# Altium footprint library leadic_footp.PcbLib: 46 footprints (part 1 of 3)
Each footprint in its own frame and in the unit in brackets; x right, y up, seen from the top. Pads: shape width x height; smd on the part's side, far side on the other; paste and mask are expansions set on the pad; w line width, h text height; cw(c..) or ccw(c..) is an arc to the next point about the centre after c.
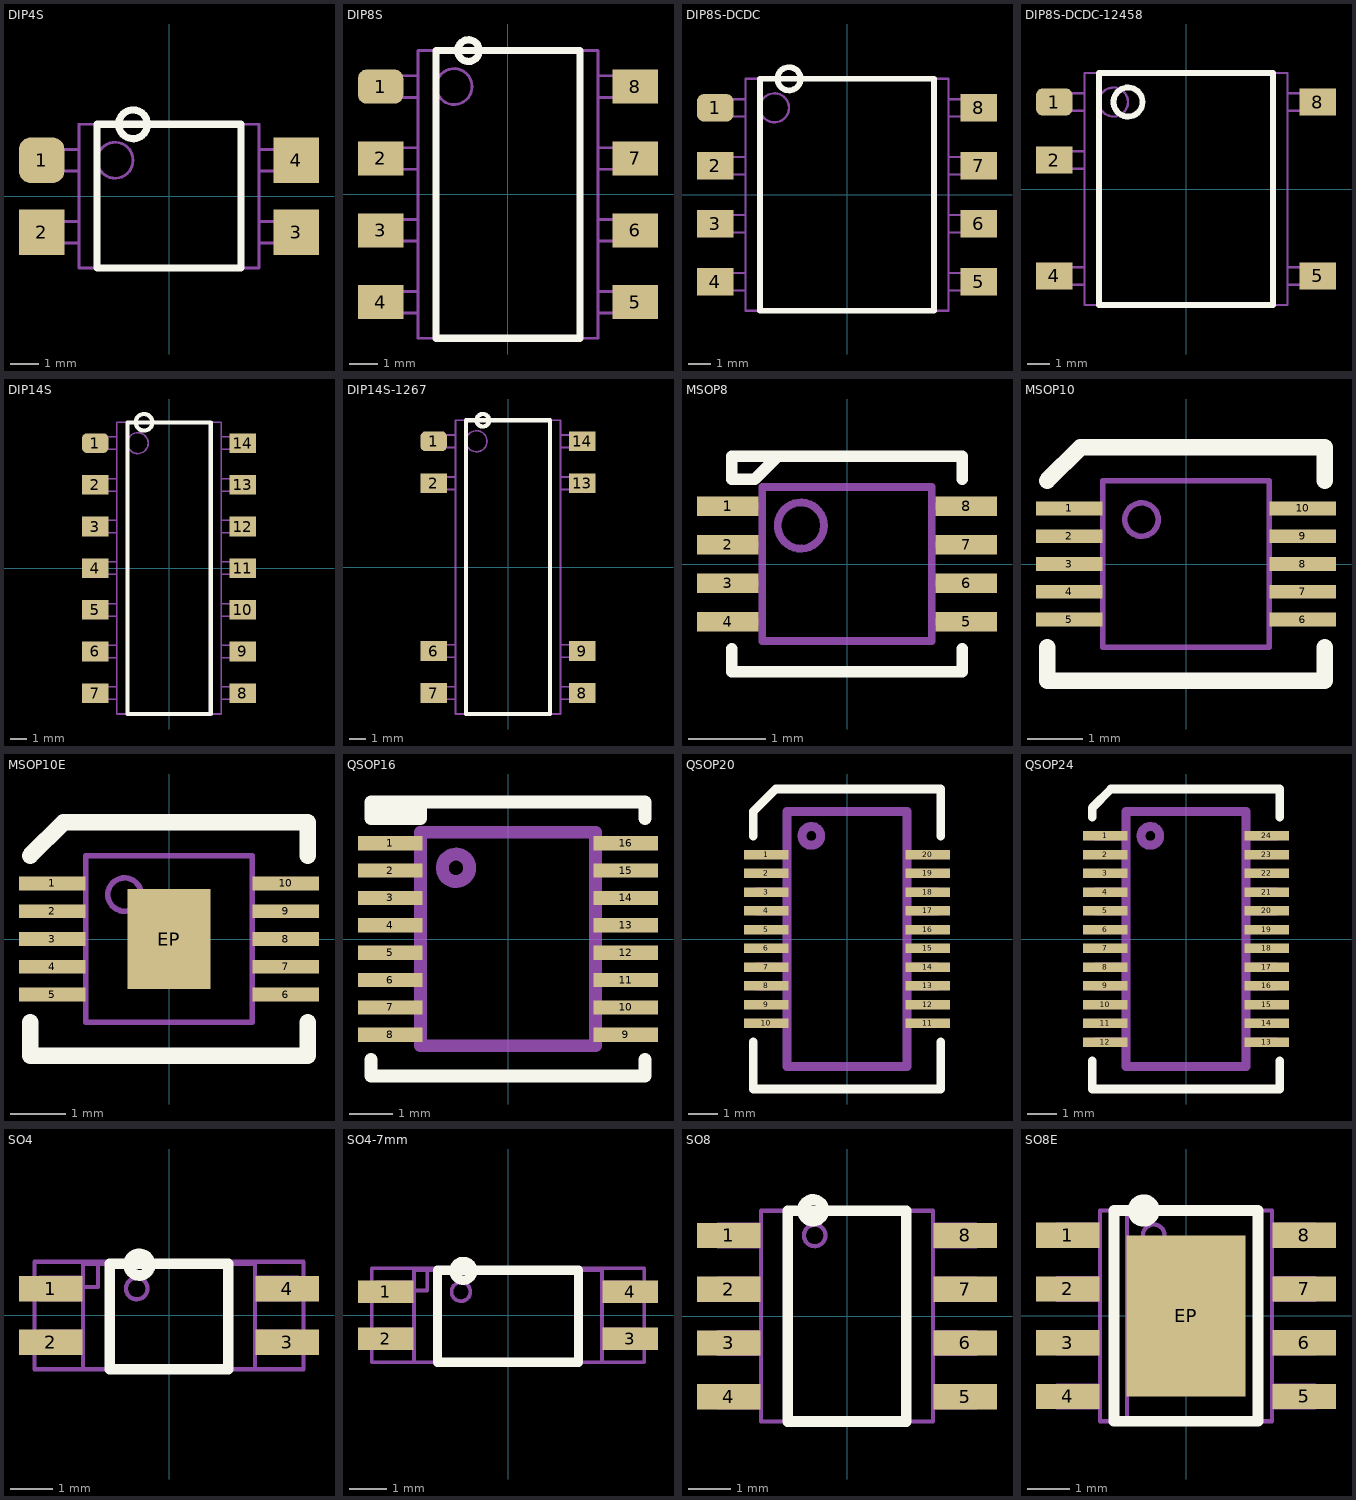
[diagram p0: the footprints below, top view; thin cyan lines are the x and y axes]

## DIP4S [mm]
height 4.6
pads (4):
  rrect50% 1.6x1.6 smd: 1(-4.5,1.27)
  rect 1.6x1.6 smd: 2(-4.5,-1.27) 3(4.5,-1.27) 4(4.5,1.27)
Top Overlay:
  circle w0.254: c-1.27,2.54 r0.508
  lines w0.254: -2.54,-2.54 -2.54,2.54 2.54,2.54 2.54,-2.54 -2.54,-2.54
Mechanical 1:
  circle w0.1: c-1.905,1.27 r0.635
  lines w0.1: -3.175,-1.651 -3.81,-1.651 -3.81,-0.889 -3.175,-0.889 ; -3.175,0.889 -3.81,0.889 -3.81,1.651 -3.175,1.651 ; 3.175,-1.651 3.81,-1.651 3.81,-0.889 3.175,-0.889 ; 3.175,0.889 3.81,0.889 3.81,1.651 3.175,1.651 ; -3.175,-2.54 -3.175,2.54 3.175,2.54 3.175,-2.54 -3.175,-2.54
3D body: height 1.1, standoff 0, extent 2.52,1.015 5.02,1.515
3D body: height 1.1, standoff 0, extent 2.52,-1.525 5.02,-1.025
3D body: height 1.1, standoff 0, extent -5.02,-1.515 -2.52,-1.015
3D body: height 1.1, standoff 0, extent -5.02,1.025 -2.52,1.525
3D body: height 4, standoff 0.5, extent -3.175,-2.54 3.175,2.54

## DIP8S [mm]
height 4.6
pads (8):
  rrect50% 1.6x1.2 smd: 1(-4.5,3.81)
  rect 1.6x1.2 smd: 2(-4.5,1.27) 3(-4.5,-1.27) 4(-4.5,-3.81) 5(4.5,-3.81) 6(4.5,-1.27) 7(4.5,1.27) 8(4.5,3.81)
Top Overlay:
  circle w0.254: c-1.397,5.08 r0.381
  lines w0.254: -2.54,-5.08 2.54,-5.08 2.54,5.08 -2.54,5.08 -2.54,-5.08
Mechanical 1:
  circle w0.1: c-1.905,3.81 r0.635
  lines w0.1: -3.175,-4.191 -3.81,-4.191 -3.81,-3.429 -3.175,-3.429 ; -3.175,-1.651 -3.81,-1.651 -3.81,-0.889 -3.175,-0.889 ; -3.175,0.889 -3.81,0.889 -3.81,1.651 -3.175,1.651 ; -3.175,3.429 -3.81,3.429 -3.81,4.191 -3.175,4.191 ; 3.175,-4.191 3.81,-4.191 3.81,-3.429 3.175,-3.429 ; 3.175,-1.651 3.81,-1.651 3.81,-0.889 3.175,-0.889 ; 3.175,0.889 3.81,0.889 3.81,1.651 3.175,1.651 ; 3.175,3.429 3.81,3.429 3.81,4.191 3.175,4.191 ; -3.175,-5.08 3.175,-5.08 3.175,5.08 -3.175,5.08 -3.175,-5.08
3D body: height 4, standoff 0.5, extent -3.175,-5.08 3.175,5.08
3D body: height 1.1, standoff 0, extent -5.02,3.565 -2.52,4.065
3D body: height 1.1, standoff 0, extent -5.02,1.025 -2.52,1.525
3D body: height 1.1, standoff 0, extent 2.52,1.015 5.02,1.515
3D body: height 1.1, standoff 0, extent 2.52,3.555 5.02,4.055
3D body: height 1.1, standoff 0, extent 2.52,-1.525 5.02,-1.025
3D body: height 1.1, standoff 0, extent 2.52,-4.065 5.02,-3.565
3D body: height 1.1, standoff 0, extent -5.02,-4.055 -2.52,-3.555
3D body: height 1.1, standoff 0, extent -5.02,-1.515 -2.52,-1.015

## DIP8S-DCDC [mm]
height 7.6
pads (8):
  rrect50% 1.6x1.2 smd: 1(-5.77,3.81)
  rect 1.6x1.2 smd: 2(-5.77,1.27) 3(-5.77,-1.27) 4(-5.77,-3.81) 5(5.77,-3.81) 6(5.77,-1.27) 7(5.77,1.27) 8(5.77,3.81)
Top Overlay:
  circle w0.254: c-2.54,5.08 r0.508
  lines w0.254: -3.81,-5.08 3.81,-5.08 3.81,5.08 -3.81,5.08 -3.81,-5.08
Mechanical 1:
  circle w0.1: c-3.175,3.81 r0.635
  lines w0.1: -4.445,-4.191 -5.08,-4.191 -5.08,-3.429 -4.445,-3.429 ; -4.445,-1.651 -5.08,-1.651 -5.08,-0.889 -4.445,-0.889 ; -4.445,0.889 -5.08,0.889 -5.08,1.651 -4.445,1.651 ; -4.445,3.429 -5.08,3.429 -5.08,4.191 -4.445,4.191 ; 4.445,-4.191 5.08,-4.191 5.08,-3.429 4.445,-3.429 ; 4.445,-1.651 5.08,-1.651 5.08,-0.889 4.445,-0.889 ; 4.445,0.889 5.08,0.889 5.08,1.651 4.445,1.651 ; 4.445,3.429 5.08,3.429 5.08,4.191 4.445,4.191 ; -4.445,-5.08 -4.445,5.08 4.445,5.08 4.445,-5.08 -4.445,-5.08
3D body: height 1.1, standoff 0, extent -6.29,-1.515 -3.79,-1.015
3D body: height 1.1, standoff 0, extent -6.29,-4.055 -3.79,-3.555
3D body: height 1.1, standoff 0, extent -6.29,1.025 -3.79,1.525
3D body: height 1.1, standoff 0, extent -6.29,3.565 -3.79,4.065
3D body: height 7.6, standoff 0.5, extent -4.445,-5.08 4.445,5.08
3D body: height 1.1, standoff 0, extent 3.79,-4.065 6.29,-3.565
3D body: height 1.1, standoff 0, extent 3.79,-1.525 6.29,-1.025
3D body: height 1.1, standoff 0, extent 3.79,3.555 6.29,4.055
3D body: height 1.1, standoff 0, extent 3.79,1.015 6.29,1.515

## DIP8S-DCDC-12458 [mm]
height 7.6
pads (5):
  rrect50% 1.6x1.2 smd: 1(-5.77,3.81)
  rect 1.6x1.2 smd: 2(-5.77,1.27) 4(-5.77,-3.81) 5(5.77,-3.81) 8(5.77,3.81)
Top Overlay:
  circle w0.254: c-2.54,3.81 r0.635
  lines w0.254: -3.81,-5.08 -3.81,5.08 3.81,5.08 3.81,-5.08 -3.81,-5.08
Mechanical 1:
  circle w0.1: c-3.175,3.81 r0.635
  lines w0.1: -4.445,-4.191 -5.08,-4.191 -5.08,-3.429 -4.445,-3.429 ; -4.445,0.889 -5.08,0.889 -5.08,1.651 -4.445,1.651 ; -4.445,3.429 -5.08,3.429 -5.08,4.191 -4.445,4.191 ; 4.445,-4.191 5.08,-4.191 5.08,-3.429 4.445,-3.429 ; 4.445,3.429 5.08,3.429 5.08,4.191 4.445,4.191 ; -4.445,-5.08 4.445,-5.08 4.445,5.08 -4.445,5.08 -4.445,-5.08
3D body: height 1.1, standoff 0, extent 3.79,3.555 6.29,4.055
3D body: height 1.1, standoff 0, extent 3.79,-4.065 6.29,-3.565
3D body: height 7.6, standoff 0.5, extent -4.445,-5.08 4.445,5.08
3D body: height 1.1, standoff 0, extent -6.29,3.565 -3.79,4.065
3D body: height 1.1, standoff 0, extent -6.29,1.025 -3.79,1.525
3D body: height 1.1, standoff 0, extent -6.29,-4.055 -3.79,-3.555

## DIP14S [mm]
height 4.6
pads (14):
  rrect50% 1.6x1.2 smd: 1(-4.5,7.62)
  rect 1.6x1.2 smd: 2(-4.5,5.08) 3(-4.5,2.54) 4(-4.5,0) 5(-4.5,-2.54) 6(-4.5,-5.08) 7(-4.5,-7.62) 8(4.5,-7.62) 9(4.5,-5.08) 10(4.5,-2.54) 11(4.5,0) 12(4.5,2.54) 13(4.5,5.08) 14(4.5,7.62)
Top Overlay:
  circle w0.254: c-1.524,8.89 r0.508
  lines w0.254: -2.54,-8.89 -2.54,8.89 2.54,8.89 2.54,-8.89 -2.54,-8.89
Mechanical 1:
  circle w0.1: c-1.905,7.62 r0.635
  lines w0.1: -3.175,-8.001 -3.81,-8.001 -3.81,-7.239 -3.175,-7.239 ; -3.175,-5.461 -3.81,-5.461 -3.81,-4.699 -3.175,-4.699 ; -3.175,-2.921 -3.81,-2.921 -3.81,-2.159 -3.175,-2.159 ; -3.175,-0.381 -3.81,-0.381 -3.81,0.381 -3.175,0.381 ; -3.175,2.159 -3.81,2.159 -3.81,2.921 -3.175,2.921 ; -3.175,4.699 -3.81,4.699 -3.81,5.461 -3.175,5.461 ; -3.175,7.239 -3.81,7.239 -3.81,8.001 -3.175,8.001 ; 3.175,-8.001 3.81,-8.001 3.81,-7.239 3.175,-7.239 ; 3.175,-5.461 3.81,-5.461 3.81,-4.699 3.175,-4.699 ; 3.175,-2.921 3.81,-2.921 3.81,-2.159 3.175,-2.159 ; 3.175,-0.381 3.81,-0.381 3.81,0.381 3.175,0.381 ; 3.175,2.159 3.81,2.159 3.81,2.921 3.175,2.921 ; 3.175,4.699 3.81,4.699 3.81,5.461 3.175,5.461 ; 3.175,7.239 3.81,7.239 3.81,8.001 3.175,8.001 ; -3.175,-8.89 -3.175,8.89 3.175,8.89 3.175,-8.89 -3.175,-8.89
3D body: height 1.1, standoff 0, extent -5.02,-2.785 -2.52,-2.285
3D body: height 1.1, standoff 0, extent 2.52,-2.795 5.02,-2.295
3D body: height 1.1, standoff 0, extent 2.52,-5.335 5.02,-4.835
3D body: height 1.1, standoff 0, extent 2.52,-7.875 5.02,-7.375
3D body: height 1.1, standoff 0, extent -5.02,-7.865 -2.52,-7.365
3D body: height 1.1, standoff 0, extent -5.02,-5.325 -2.52,-4.825
3D body: height 1.1, standoff 0, extent -5.02,2.295 -2.52,2.795
3D body: height 1.1, standoff 0, extent -5.02,-0.245 -2.52,0.255
3D body: height 1.1, standoff 0, extent 2.52,-0.255 5.02,0.245
3D body: height 1.1, standoff 0, extent 2.52,2.285 5.02,2.785
3D body: height 1.1, standoff 0, extent 2.52,7.365 5.02,7.865
3D body: height 1.1, standoff 0, extent 2.52,4.825 5.02,5.325
3D body: height 1.1, standoff 0, extent -5.02,4.835 -2.52,5.335
3D body: height 1.1, standoff 0, extent -5.02,7.375 -2.52,7.875
3D body: height 4, standoff 0.5, extent -3.175,-8.89 3.175,8.89

## DIP14S-1267 [mm]
height 4.6
pads (8):
  rrect50% 1.6x1.2 smd: 1(-4.5,7.62)
  rect 1.6x1.2 smd: 2(-4.5,5.08) 6(-4.5,-5.08) 7(-4.5,-7.62) 8(4.5,-7.62) 9(4.5,-5.08) 13(4.5,5.08) 14(4.5,7.62)
Top Overlay:
  circle w0.254: c-1.524,8.89 r0.381
  lines w0.254: -2.54,-8.89 -2.54,8.89 2.54,8.89 2.54,-8.89 -2.54,-8.89
Mechanical 1:
  circle w0.1: c-1.905,7.62 r0.635
  lines w0.1: -3.175,-8.001 -3.81,-8.001 -3.81,-7.239 -3.175,-7.239 ; -3.175,-5.461 -3.81,-5.461 -3.81,-4.699 -3.175,-4.699 ; -3.175,4.699 -3.81,4.699 -3.81,5.461 -3.175,5.461 ; -3.175,7.239 -3.81,7.239 -3.81,8.001 -3.175,8.001 ; 3.175,-8.001 3.81,-8.001 3.81,-7.239 3.175,-7.239 ; 3.175,-5.461 3.81,-5.461 3.81,-4.699 3.175,-4.699 ; 3.175,4.699 3.81,4.699 3.81,5.461 3.175,5.461 ; 3.175,7.239 3.81,7.239 3.81,8.001 3.175,8.001 ; -3.175,-8.89 -3.175,8.89 3.175,8.89 3.175,-8.89 -3.175,-8.89
3D body: height 1.1, standoff 0, extent 2.52,-5.335 5.02,-4.835
3D body: height 1.1, standoff 0, extent 2.52,-7.875 5.02,-7.375
3D body: height 1.1, standoff 0, extent -5.02,-7.865 -2.52,-7.365
3D body: height 1.1, standoff 0, extent -5.02,-5.325 -2.52,-4.825
3D body: height 1.1, standoff 0, extent 2.52,7.365 5.02,7.865
3D body: height 1.1, standoff 0, extent 2.52,4.825 5.02,5.325
3D body: height 1.1, standoff 0, extent -5.02,4.835 -2.52,5.335
3D body: height 1.1, standoff 0, extent -5.02,7.375 -2.52,7.875
3D body: height 4, standoff 0.5, extent -3.175,-8.89 3.175,8.89

## MSOP8 [mm] "0.5mm pitch"
height 1
pads (8):
  rect 0.8x0.25 smd: 1(-1.55,0.75) 2(-1.55,0.25) 3(-1.55,-0.25) 4(-1.55,-0.75) 5(1.55,-0.75) 6(1.55,-0.25) 7(1.55,0.25) 8(1.55,0.75)
Top Overlay:
  lines w0.15: -1.5,-1.1 -1.5,-1.4 1.5,-1.4 1.5,-1.1 ; -0.9,1.4 -1.2,1.1 -1.5,1.1 -1.5,1.4 1.5,1.4 1.5,1.1
Mechanical 1:
  circle w0.1: c-0.6,0.5 r0.3
  lines w0.1: -1.6,-0.75 -1.1,-0.75 ; -1.6,-0.25 -1.1,-0.25 ; -1.6,0.25 -1.1,0.25 ; -1.6,0.75 -1.1,0.75 ; 1.1,-0.75 1.6,-0.75 ; 1.1,-0.25 1.6,-0.25 ; 1.1,0.25 1.6,0.25 ; 1.1,0.75 1.6,0.75 ; -1.1,-1 1.1,-1 1.1,1 -1.1,1 -1.1,-1
3D body: height 0.75, standoff 0, extent -1.9,-0.85 -0.202,-0.65
3D body: height 0.75, standoff 0, extent -1.9,-0.35 -0.202,-0.15
3D body: height 0.75, standoff 0, extent -1.9,0.15 -0.202,0.35
3D body: height 1, standoff 0.1, extent -1.1,-1 1.1,1
3D body: height 0.75, standoff 0, extent 0.202,-0.35 1.9,-0.15
3D body: height 0.75, standoff 0, extent 0.202,0.65 1.9,0.85
3D body: height 0.75, standoff 0, extent -1.9,0.65 -0.202,0.85
3D body: height 0.75, standoff 0, extent 0.2,-0.86 1.898,-0.66
3D body: height 0.75, standoff 0, extent 0.202,0.15 1.9,0.35

## MSOP10 [mm] "0.5mm pitch"
height 1.2
pads (10):
  rect 1.2x0.25 smd: 1(-2.1,1) 2(-2.1,0.5) 3(-2.1,0) 4(-2.1,-0.5) 5(-2.1,-1) 6(2.1,-1) 7(2.1,-0.5) 8(2.1,0) 9(2.1,0.5) 10(2.1,1)
Top Overlay:
  lines w0.3: -2.5,-1.5 -2.5,-2.1 2.5,-2.1 2.5,-1.5 ; -2.5,1.5 -1.9,2.1 2.5,2.1 2.5,1.5
Mechanical 1:
  circle w0.1: c-0.8,0.8 r0.3
  lines w0.1: -2.5,-1 -1.5,-1 ; -2.5,-0.5 -1.5,-0.5 ; -2.5,0 -1.5,0 ; -2.5,0.5 -1.5,0.5 ; -2.5,1 -1.5,1 ; 1.5,-1 2.5,-1 ; 1.5,-0.5 2.5,-0.5 ; 1.5,0 2.5,0 ; 1.5,0.5 2.5,0.5 ; 1.5,1 2.5,1 ; -1.5,-1.5 -1.5,1.5 1.5,1.5 1.5,-1.5 -1.5,-1.5
3D body: height 1.2, standoff 0.1, extent -1.5,-1.5 1.5,1.5
3D body: height 0.75, standoff 0, extent 0.802,0.4 2.5,0.6
3D body: height 0.75, standoff 0, extent 0.8,-0.61 2.498,-0.41
3D body: height 0.75, standoff 0, extent 0.802,-1.1 2.5,-0.9
3D body: height 0.75, standoff 0, extent -2.498,-1.09 -0.8,-0.89
3D body: height 0.75, standoff 0, extent -2.5,0.9 -0.802,1.1
3D body: height 0.75, standoff 0, extent 0.802,0.9 2.5,1.1
3D body: height 0.75, standoff 0, extent 0.802,-0.1 2.5,0.1
3D body: height 0.75, standoff 0, extent -2.5,0.4 -0.802,0.6
3D body: height 0.75, standoff 0, extent -2.5,-0.1 -0.802,0.1
3D body: height 0.75, standoff 0, extent -2.5,-0.6 -0.802,-0.4

## MSOP10E [mm] "0.5mm pitch"
height 1.2
pads (11):
  rect 1.2x0.25 smd: 1(-2.1,1) 2(-2.1,0.5) 3(-2.1,0) 4(-2.1,-0.5) 5(-2.1,-1) 6(2.1,-1) 7(2.1,-0.5) 8(2.1,0) 9(2.1,0.5) 10(2.1,1)
  rect 1.5x1.8 smd: EP(0,0)
Top Overlay:
  lines w0.3: -2.5,-1.5 -2.5,-2.1 2.5,-2.1 2.5,-1.5 ; -2.5,1.5 -1.9,2.1 2.5,2.1 2.5,1.5
Mechanical 1:
  circle w0.1: c-0.8,0.8 r0.3
  lines w0.1: -2.5,-1 -1.5,-1 ; -2.5,-0.5 -1.5,-0.5 ; -2.5,0 -1.5,0 ; -2.5,0.5 -1.5,0.5 ; -2.5,1 -1.5,1 ; 1.5,-1 2.5,-1 ; 1.5,-0.5 2.5,-0.5 ; 1.5,0 2.5,0 ; 1.5,0.5 2.5,0.5 ; 1.5,1 2.5,1 ; -1.5,-1.5 -1.5,1.5 1.5,1.5 1.5,-1.5 -1.5,-1.5
3D body: height 0.75, standoff 0, extent 0.802,0.4 2.5,0.6
3D body: height 0.75, standoff 0, extent 0.8,-0.61 2.498,-0.41
3D body: height 0.75, standoff 0, extent 0.802,-1.1 2.5,-0.9
3D body: height 0.75, standoff 0, extent -2.498,-1.09 -0.8,-0.89
3D body: height 0.75, standoff 0, extent -2.5,0.9 -0.802,1.1
3D body: height 0.75, standoff 0, extent 0.802,0.9 2.5,1.1
3D body: height 0.75, standoff 0, extent 0.802,-0.1 2.5,0.1
3D body: height 0.75, standoff 0, extent -2.5,0.4 -0.802,0.6
3D body: height 0.75, standoff 0, extent -2.5,-0.1 -0.802,0.1
3D body: height 0.75, standoff 0, extent -2.5,-0.6 -0.802,-0.4
3D body: height 1.2, standoff 0.1, extent -1.5,-1.5 1.5,1.5

## QSOP16 [mm] "0.635mm pitch"
pads (16):
  rect 1.5x0.33 smd: 1(-2.73,2.222) 2(-2.73,1.587) 3(-2.73,0.953) 4(-2.73,0.318) 5(-2.73,-0.318) 6(-2.73,-0.953) 7(-2.73,-1.587) 8(-2.73,-2.222) 9(2.73,-2.222) 10(2.73,-1.587) 11(2.73,-0.953) 12(2.73,-0.318) 13(2.73,0.318) 14(2.73,0.953) 15(2.73,1.587) 16(2.73,2.222)
Top Overlay:
  lines w0.3: -3.175,-2.794 -3.175,-3.175 3.175,-3.175 3.175,-2.794 ; -3.175,2.921 -2.032,2.921 ; -2.032,3.175 -2.032,2.921 ; 3.175,2.794 3.175,3.175 -3.175,3.175 -3.175,2.794 -2.032,2.794 -2.032,2.921
Mechanical 1:
  circle w0.3: c-1.206,1.651 r0.318
  lines w0.3: -3.048,-2.222 -2.032,-2.222 ; -3.048,-1.587 -2.032,-1.587 ; -3.048,-0.953 -2.032,-0.953 ; -3.048,-0.318 -2.032,-0.318 ; -3.048,0.318 -2.032,0.318 ; -3.048,0.953 -2.032,0.953 ; -3.048,1.587 -2.032,1.587 ; -3.048,2.222 -2.032,2.222 ; 2.032,-2.222 3.048,-2.222 ; 2.032,-1.587 3.048,-1.587 ; 2.032,-0.953 3.048,-0.953 ; 2.032,-0.318 3.048,-0.318 ; 2.032,0.318 3.048,0.318 ; 2.032,0.953 3.048,0.953 ; 2.032,1.587 3.048,1.587 ; 2.032,2.222 3.048,2.222 ; -2.032,-2.476 -2.032,2.476 2.032,2.476 2.032,-2.476 -2.032,-2.476

## QSOP20 [mm] "0.635mm pitch"
pads (20):
  rect 1.5x0.33 smd: 1(-2.73,2.857) 2(-2.73,2.222) 3(-2.73,1.587) 4(-2.73,0.953) 5(-2.73,0.318) 6(-2.73,-0.318) 7(-2.73,-0.953) 8(-2.73,-1.587) 9(-2.73,-2.222) 10(-2.73,-2.857) 11(2.73,-2.857) 12(2.73,-2.222) 13(2.73,-1.587) 14(2.73,-0.953) 15(2.73,-0.318) 16(2.73,0.318) 17(2.73,0.953) 18(2.73,1.587) 19(2.73,2.222) 20(2.73,2.857)
Top Overlay:
  lines w0.3: -3.175,-3.492 -3.175,-5.08 3.175,-5.08 3.175,-3.492 ; -3.175,3.492 -3.175,4.318 -2.413,5.08 3.175,5.08 3.175,3.492
Mechanical 1:
  circle w0.3: c-1.206,3.492 r0.318
  lines w0.3: -3.048,-2.857 -2.032,-2.857 ; -3.048,-2.222 -2.032,-2.222 ; -3.048,-1.587 -2.032,-1.587 ; -3.048,-0.953 -2.032,-0.953 ; -3.048,-0.318 -2.032,-0.318 ; -3.048,0.318 -2.032,0.318 ; -3.048,0.953 -2.032,0.953 ; -3.048,1.587 -2.032,1.587 ; -3.048,2.222 -2.032,2.222 ; -3.048,2.857 -2.032,2.857 ; 2.032,-2.857 3.048,-2.857 ; 2.032,-2.222 3.048,-2.222 ; 2.032,-1.587 3.048,-1.587 ; 2.032,-0.953 3.048,-0.953 ; 2.032,-0.318 3.048,-0.318 ; 2.032,0.318 3.048,0.318 ; 2.032,0.953 3.048,0.953 ; 2.032,1.587 3.048,1.587 ; 2.032,2.222 3.048,2.222 ; 2.032,2.857 3.048,2.857 ; -2.032,-4.318 2.032,-4.318 2.032,4.318 -2.032,4.318 -2.032,-4.318

## QSOP24 [mm] "0.635mm pitch"
pads (24):
  rect 1.5x0.33 smd: 1(-2.73,3.492) 2(-2.73,2.857) 3(-2.73,2.222) 4(-2.73,1.587) 5(-2.73,0.953) 6(-2.73,0.318) 7(-2.73,-0.318) 8(-2.73,-0.953) 9(-2.73,-1.587) 10(-2.73,-2.222) 11(-2.73,-2.857) 12(-2.73,-3.492) 13(2.73,-3.492) 14(2.73,-2.857) 15(2.73,-2.222) 16(2.73,-1.587) 17(2.73,-0.953) 18(2.73,-0.318) 19(2.73,0.318) 20(2.73,0.953) 21(2.73,1.587) 22(2.73,2.222) 23(2.73,2.857) 24(2.73,3.492)
Top Overlay:
  lines w0.3: -3.175,-4.127 -3.175,-5.08 3.175,-5.08 3.175,-4.127 ; -3.175,4.127 -3.175,4.445 -2.54,5.08 3.175,5.08 3.175,4.127
Mechanical 1:
  circle w0.3: c-1.206,3.492 r0.318
  lines w0.3: -3.048,-3.492 -2.032,-3.492 ; -3.048,-2.857 -2.032,-2.857 ; -3.048,-2.222 -2.032,-2.222 ; -3.048,-1.587 -2.032,-1.587 ; -3.048,-0.953 -2.032,-0.953 ; -3.048,-0.318 -2.032,-0.318 ; -3.048,0.318 -2.032,0.318 ; -3.048,0.953 -2.032,0.953 ; -3.048,1.587 -2.032,1.587 ; -3.048,2.222 -2.032,2.222 ; -3.048,2.857 -2.032,2.857 ; -3.048,3.492 -2.032,3.492 ; 2.032,-3.492 3.048,-3.492 ; 2.032,-2.857 3.048,-2.857 ; 2.032,-2.222 3.048,-2.222 ; 2.032,-1.587 3.048,-1.587 ; 2.032,-0.953 3.048,-0.953 ; 2.032,-0.318 3.048,-0.318 ; 2.032,0.318 3.048,0.318 ; 2.032,0.953 3.048,0.953 ; 2.032,1.587 3.048,1.587 ; 2.032,2.222 3.048,2.222 ; 2.032,2.857 3.048,2.857 ; 2.032,3.492 3.048,3.492 ; -2.032,-4.318 -2.032,4.318 2.032,4.318 2.032,-4.318 -2.032,-4.318

## SO4 [mm] "6mm wide"
height 2
pads (4):
  rect 1.5x0.6 smd: 1(-2.794,0.635) 2(-2.794,-0.635) 3(2.794,-0.635) 4(2.794,0.635)
Top Overlay:
  circle w0.254: c-0.7,1.2 r0.254
  lines w0.254: -1.397,-1.27 -1.397,1.219 1.397,1.219 1.397,-1.27 -1.397,-1.27
Mechanical 1:
  circle w0.1: c-0.762,0.635 r0.254
  lines w0.1: -2.032,-0.889 -3.048,-0.889 -3.048,-0.381 -2.032,-0.381 ; -2.032,0.381 -3.048,0.381 -3.048,0.889 -2.032,0.889 ; -1.397,-1.27 -1.397,1.219 ; 2.032,-0.889 3.048,-0.889 3.048,-0.381 2.032,-0.381 ; 2.032,0.381 3.048,0.381 3.048,0.889 2.032,0.889 ; -2.032,-1.27 -2.032,1.219 2.032,1.219 2.032,-1.27 -2.032,-1.27
Mechanical 5:
  lines w0.1: -3.175,0.67 -1.675,0.67 -1.675,1.27 ; -3.175,-1.27 -3.175,1.27 3.175,1.27 3.175,-1.27 -3.175,-1.27
  text ".Designator" at -1.27,-0.635 h1.5
Mechanical 6:
  lines w0.1: -3.175,0.67 -1.675,0.67 -1.675,1.27 ; -3.175,-1.27 3.175,-1.27 3.175,1.27 -3.175,1.27 -3.175,-1.27
  text ".Comment" at -1.27,-0.635 h1.5
3D body: height 1.1, standoff 0, extent -3.175,-0.885 -0.675,-0.385
3D body: height 1.1, standoff 0, extent 0.675,0.385 3.175,0.885
3D body: height 1.1, standoff 0, extent 0.675,-0.885 3.175,-0.385
3D body: height 2, standoff 0.2, extent -1.905,-1.27 1.905,1.23
3D body: height 1.1, standoff 0, extent -3.175,0.385 -0.675,0.885

## SO4-7mm [mm] "7mm wide"
height 2
pads (4):
  rect 1.5x0.6 smd: 1(-3.302,0.635) 2(-3.302,-0.635) 3(3.302,-0.635) 4(3.302,0.635)
Top Overlay:
  circle w0.254: c-1.208,1.2 r0.254
  lines w0.254: -1.905,-1.27 -1.905,1.219 1.905,1.219 1.905,-1.27 -1.905,-1.27
Mechanical 1:
  circle w0.1: c-1.27,0.635 r0.254
  lines w0.1: -2.54,-0.889 -3.556,-0.889 -3.556,-0.381 -2.54,-0.381 ; -2.54,0.381 -3.556,0.381 -3.556,0.889 -2.54,0.889 ; -1.905,-1.27 -1.905,1.219 ; 2.54,-0.889 3.556,-0.889 3.556,-0.381 2.54,-0.381 ; 2.54,0.381 3.556,0.381 3.556,0.889 2.54,0.889 ; -2.54,-1.27 -2.54,1.219 2.54,1.219 2.54,-1.27 -2.54,-1.27
Mechanical 5:
  lines w0.1: -3.683,0.67 -2.183,0.67 -2.183,1.27 ; -3.683,-1.27 -3.683,1.27 3.683,1.27 3.683,-1.27 -3.683,-1.27
  text ".Designator" at -1.27,-0.635 h1.5
Mechanical 6:
  lines w0.1: -3.683,0.67 -2.183,0.67 -2.183,1.27 ; -3.683,-1.27 3.683,-1.27 3.683,1.27 -3.683,1.27 -3.683,-1.27
  text ".Comment" at -1.27,-0.635 h1.5
3D body: height 1.1, standoff 0, extent -3.683,-0.885 -1.183,-0.385
3D body: height 1.1, standoff 0, extent 1.183,0.385 3.683,0.885
3D body: height 1.1, standoff 0, extent 1.183,-0.885 3.683,-0.385
3D body: height 2, standoff 0.2, extent -2.413,-1.27 2.413,1.23
3D body: height 1.1, standoff 0, extent -3.683,0.385 -1.183,0.885

## SO8 [mm]
height 1.8
pads (8):
  rect 1.5x0.6 smd: 1(-2.794,1.905) 2(-2.794,0.635) 3(-2.794,-0.635) 4(-2.794,-1.905) 5(2.794,-1.905) 6(2.794,-0.635) 7(2.794,0.635) 8(2.794,1.905)
Top Overlay:
  circle w0.254: c-0.8,2.5 r0.254
  lines w0.254: -1.397,-2.489 -1.397,2.489 1.397,2.489 1.397,-2.489 -1.397,-2.489
Mechanical 1:
  circle w0.1: c-0.762,1.905 r0.254
  lines w0.1: -2.032,-2.159 -3.048,-2.159 -3.048,-1.651 -2.032,-1.651 ; -2.032,-0.889 -3.048,-0.889 -3.048,-0.381 -2.032,-0.381 ; -2.032,0.381 -3.048,0.381 -3.048,0.889 -2.032,0.889 ; -2.032,1.651 -3.048,1.651 -3.048,2.159 -2.032,2.159 ; -1.397,-2.489 -1.397,2.489 ; 2.032,-2.159 3.048,-2.159 3.048,-1.651 2.032,-1.651 ; 2.032,-0.889 3.048,-0.889 3.048,-0.381 2.032,-0.381 ; 2.032,0.381 3.048,0.381 3.048,0.889 2.032,0.889 ; 2.032,1.651 3.048,1.651 3.048,2.159 2.032,2.159 ; -2.032,-2.489 -2.032,2.489 2.032,2.489 2.032,-2.489 -2.032,-2.489
3D body: height 1.1, standoff 0, extent -3.175,-2.155 -0.675,-1.655
3D body: height 1.1, standoff 0, extent -3.175,-0.885 -0.675,-0.385
3D body: height 1.1, standoff 0, extent -3.175,0.385 -0.675,0.885
3D body: height 1.1, standoff 0, extent 0.675,-0.885 3.175,-0.385
3D body: height 1.1, standoff 0, extent 0.675,-2.155 3.175,-1.655
3D body: height 1.1, standoff 0, extent 0.675,1.655 3.175,2.155
3D body: height 1.1, standoff 0, extent 0.675,0.385 3.175,0.885
3D body: height 1.8, standoff 0.2, extent -1.905,-2.5 1.905,2.5
3D body: height 1.1, standoff 0, extent -3.175,1.655 -0.675,2.155

## SO8E [mm]
height 1.8
pads (9):
  rect 1.5x0.6 smd: 1(-2.794,1.905) 2(-2.794,0.635) 3(-2.794,-0.635) 4(-2.794,-1.905) 5(2.794,-1.905) 6(2.794,-0.635) 7(2.794,0.635) 8(2.794,1.905)
  rect 2.8x3.8 smd paste-0.7: EP(0,0)
Top Overlay:
  circle w0.254: c-1,2.489 r0.254
  lines w0.254: -1.7,-2.489 -1.7,2.489 1.7,2.489 1.7,-2.489 -1.7,-2.489
Mechanical 1:
  circle w0.1: c-0.762,1.905 r0.254
  lines w0.1: -2.032,-2.159 -3.048,-2.159 -3.048,-1.651 -2.032,-1.651 ; -2.032,-0.889 -3.048,-0.889 -3.048,-0.381 -2.032,-0.381 ; -2.032,0.381 -3.048,0.381 -3.048,0.889 -2.032,0.889 ; -2.032,1.651 -3.048,1.651 -3.048,2.159 -2.032,2.159 ; -1.397,-2.489 -1.397,2.489 ; 2.032,-2.159 3.048,-2.159 3.048,-1.651 2.032,-1.651 ; 2.032,-0.889 3.048,-0.889 3.048,-0.381 2.032,-0.381 ; 2.032,0.381 3.048,0.381 3.048,0.889 2.032,0.889 ; 2.032,1.651 3.048,1.651 3.048,2.159 2.032,2.159 ; -2.032,-2.489 -2.032,2.489 2.032,2.489 2.032,-2.489 -2.032,-2.489
3D body: height 1.1, standoff 0, extent -3.175,-2.155 -0.675,-1.655
3D body: height 1.1, standoff 0, extent -3.175,-0.885 -0.675,-0.385
3D body: height 1.1, standoff 0, extent -3.175,0.385 -0.675,0.885
3D body: height 1.1, standoff 0, extent 0.675,-0.885 3.175,-0.385
3D body: height 1.1, standoff 0, extent 0.675,-2.155 3.175,-1.655
3D body: height 1.1, standoff 0, extent 0.675,1.655 3.175,2.155
3D body: height 1.1, standoff 0, extent 0.675,0.385 3.175,0.885
3D body: height 1.8, standoff 0.2, extent -1.905,-2.5 1.905,2.5
3D body: height 1.1, standoff 0, extent -3.175,1.655 -0.675,2.155